# Altium integrated library Transistor.IntLib: 3457 symbols (part 58 of 78)
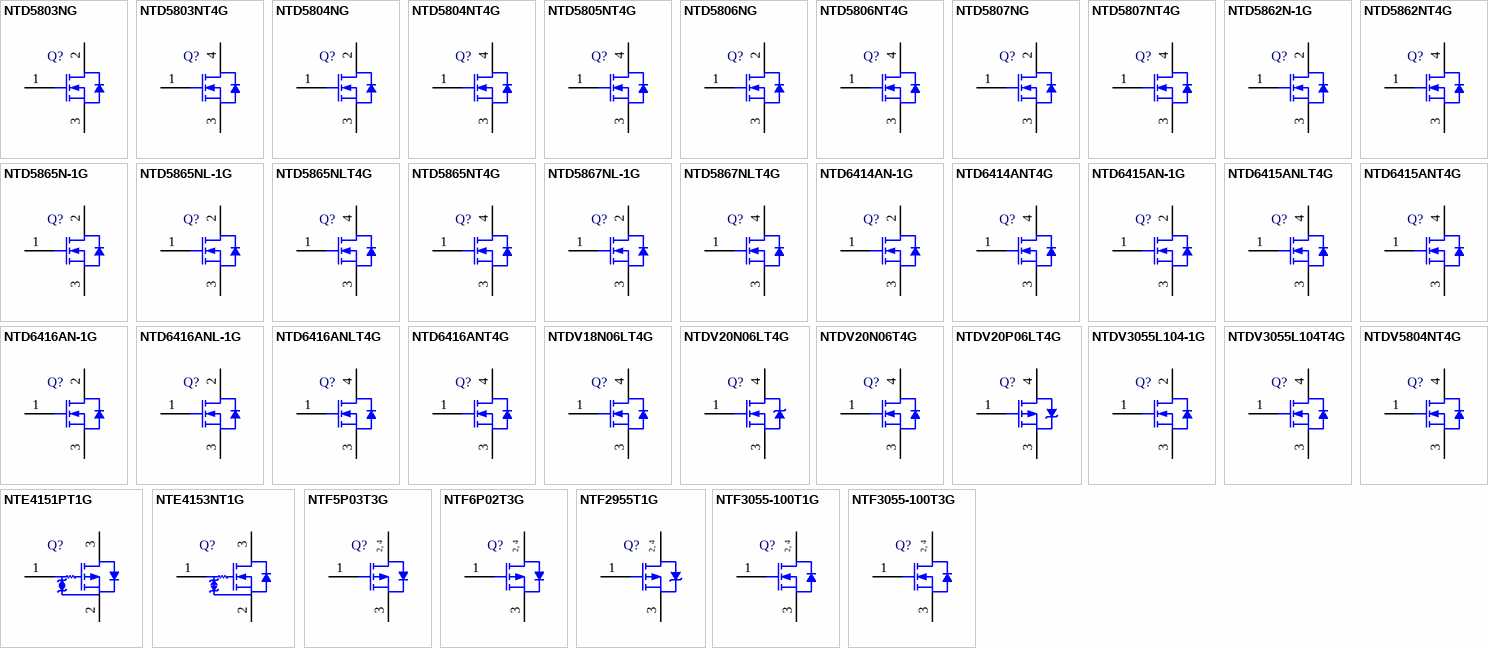
[diagram p151: symbols NTD5803NG to NTF3055-100T3G]

## NTD6416ANL-1G
designator Q?
N-Channel Power MOSFET, 100 V, 19 A, 74 mOhm, 3-Pin IPAK, Pb-Free, Tube; Manufacturer: On Semiconductor; PartNumber: NTD6416ANL-1G; Channel Polarity: N Channel; Ciss Typ (pF): 700; Configuration: Single; Coss Typ (pF): 110; Crss Typ (pF): 50; ID Max (A): 19; PD Max (W): 71; Qrr Typ (nC): 112; V(BR)DSS Min (V): 100; VGS Max (V): 20; VGS(th) Max (V): 2.2; DatasheetVersion: Rev. 4; PackageVersion: Rev. C, 12/2010; PackageReference: IPAK-3-369D-01; PackageDescription: 3-Pin Flange Mount, Vertical Straight Lead, Body 6.54 x 2.285 mm, Pitch 2.29 mm; Package Type: DPAK-3, IPAK-4; Packing: Tube; RoHS: Pb-Free; Mounting Technology: Through Hole; Code_JEDEC: TO-251; ComponentLink1Description: Manufacturer URL; ComponentLink1URL: http://www.onsemi.com/; ComponentLink2Description: Datasheet; ComponentLink2URL: http://www.onsemi.cn/pub_link/Collateral/NTD6416ANL-D.PDF; ComponentLink3Description: Package Specification; ComponentLink3URL: http://www.onsemi.cn/pub_link/Collateral/369D.PDF
footprint ONSC-IPAK-3-369D-01 (FM, 3-Leads, Body 6.75x2.4mm, Pitch 2.29mm)
pins: 1 G, 2 D, 3 S

## NTD6416ANLT4G
designator Q?
N-Channel Power MOSFET, 100 V, 19 A, 74 mOhm, 3-Pin DPAK, Pb-Free, Tape and Reel; Manufacturer: On Semiconductor; PartNumber: NTD6416ANLT4G; Channel Polarity: N Channel; Ciss Typ (pF): 700; Configuration: Single; Coss Typ (pF): 110; Crss Typ (pF): 50; ID Max (A): 19; PD Max (W): 71; Qrr Typ (nC): 112; V(BR)DSS Min (V): 100; VGS Max (V): 20; VGS(th) Max (V): 2.2; DatasheetVersion: Rev. 4; PackageVersion: Rev. B, 06/2010; PackageReference: DPAK-3-369AA-01; PackageDescription: 3-Pin Flange Mount, Body 6.54 x 6.095 mm, Pitch 2.29 mm; Package Type: DPAK-3, IPAK-4; Packing: Tape and Reel; RoHS: Pb-Free; Mounting Technology: Surface Mount; ComponentLink1Description: Manufacturer URL; ComponentLink1URL: http://www.onsemi.com/; ComponentLink2Description: Datasheet; ComponentLink2URL: http://www.onsemi.cn/pub_link/Collateral/NTD6416ANL-D.PDF; ComponentLink3Description: Package Specification; ComponentLink3URL: http://www.onsemi.cn/pub_link/Collateral/369AA.PDF
footprint ONSC-DPAK-3-369AA-01_V (DPAK, 3-Leads, Body 6.54x6.095mm, Pitch 2.29mm)
pins: 1 G, 3 S, 4 D

## NTD6416ANT4G
designator Q?
N-Channel Power MOSFET, 100 V, 17 A, 81 mOhm, 3-Pin DPAK, Pb-Free, Tape and Reel; Manufacturer: On Semiconductor; PartNumber: NTD6416ANT4G; Channel Polarity: N Channel; Ciss Typ (pF): 620; Configuration: Single; Coss Typ (pF): 110; Crss Typ (pF): 50; ID Max (A): 17; PD Max (W): 71; Qrr Typ (nC): 135; V(BR)DSS Min (V): 100; VGS Max (V): 20; VGS(th) Max (V): 4; DatasheetVersion: Rev. 2; PackageVersion: Rev. B, 06/2010; PackageReference: DPAK-3-369AA-01; PackageDescription: 3-Pin Flange Mount, Body 6.54 x 6.095 mm, Pitch 2.29 mm; Package Type: DPAK-3, IPAK-4; Packing: Tape and Reel; RoHS: Pb-Free; Mounting Technology: Surface Mount; ComponentLink1Description: Manufacturer URL; ComponentLink1URL: http://www.onsemi.com/; ComponentLink2Description: Datasheet; ComponentLink2URL: http://www.onsemi.cn/pub_link/Collateral/NTD6416AN-D.PDF; ComponentLink3Description: Package Specification; ComponentLink3URL: http://www.onsemi.cn/pub_link/Collateral/369AA.PDF
footprint ONSC-DPAK-3-369AA-01_V (DPAK, 3-Leads, Body 6.54x6.095mm, Pitch 2.29mm)
pins: 1 G, 3 S, 4 D

## NTDV18N06LT4G
designator Q?
Power MOSFET, 18 A, 60 V, Logic Level, N-Channel, 3-Pin DPAK, Pb-Free, Tape and Reel; Manufacturer: On Semiconductor; PartNumber: NTDV18N06LT4G; Channel Polarity: N Channel; Ciss Typ (pF): 482; Configuration: Single; Coss Typ (pF): 166; Crss Typ (pF): 56; ID Max (A): 18; Qrr Typ (nC): 57; V(BR)DSS Min (V): 60; VGS(th) Max (V): 2; DatasheetVersion: Rev. 6; PackageVersion: Rev. E, 02/2014; PackageReference: DPAK-3-369C-01; PackageDescription: 3-Pin Flange Mount, Body 6.54 x 6.095 mm, Pitch 2.29 mm; Package Type: DPAK-3; Packing: Tape and Reel; RoHS: Pb-Free; Mounting Technology: Surface Mount; ComponentLink1Description: Manufacturer URL; ComponentLink1URL: http://www.onsemi.com/; ComponentLink2Description: Datasheet; ComponentLink2URL: http://www.onsemi.cn/pub_link/Collateral/NTD18N06L-D.PDF; ComponentLink3Description: Package Specification; ComponentLink3URL: http://www.onsemi.cn/pub_link/Collateral/369C.PDF
footprint ONSC-DPAK-3-369C-01_V (DPAK, 3-Leads, Body 6.54x6.095mm, Pitch 2.29mm)
pins: 1 G, 3 S, 4 D

## NTDV20N06LT4G
designator Q?
Power MOSFET, 20 A, 60 V, Logic Level, N-Channel, 3-Pin DPAK, Pb-Free, Tape and Reel; Manufacturer: On Semiconductor; PartNumber: NTDV20N06LT4G; Channel Polarity: N Channel; Ciss Typ (pF): 707; Configuration: Single; Coss Typ (pF): 224; Crss Typ (pF): 72; ID Max (A): 20; Qrr Typ (nC): 66; V(BR)DSS Min (V): 60; VGS(th) Max (V): 2; DatasheetVersion: Rev. 3; PackageVersion: Rev. E, 02/2014; PackageReference: DPAK-3-369C-01; PackageDescription: 3-Pin Flange Mount, Body 6.54 x 6.095 mm, Pitch 2.29 mm; Package Type: DPAK-3; Packing: Tape and Reel; RoHS: Pb-Free; Mounting Technology: Surface Mount; ComponentLink1Description: Manufacturer URL; ComponentLink1URL: http://www.onsemi.com/; ComponentLink2Description: Datasheet; ComponentLink2URL: http://www.onsemi.cn/pub_link/Collateral/NTD20N06L-D.PDF; ComponentLink3Description: Package Specification; ComponentLink3URL: http://www.onsemi.cn/pub_link/Collateral/369C.PDF
footprint ONSC-DPAK-3-369C-01_V (DPAK, 3-Leads, Body 6.54x6.095mm, Pitch 2.29mm)
pins: 1 G, 3 S, 4 D

## NTDV20N06T4G
designator Q?
Power MOSFET, 20 A, 60 V, N-Channel, 3-Pin DPAK, Pb-Free, Tape and Reel; Manufacturer: On Semiconductor; PartNumber: NTDV20N06T4G; Channel Polarity: N Channel; Ciss Typ (pF): 725; Configuration: Single; Coss Typ (pF): 213; Crss Typ (pF): 58; ID Max (A): 20; Qrr Typ (nC): 84; V(BR)DSS Min (V): 60; VGS(th) Max (V): 4; DatasheetVersion: Rev. 8; PackageVersion: Rev. E, 02/2014; PackageReference: DPAK-3-369C-01; PackageDescription: 3-Pin Flange Mount, Body 6.54 x 6.095 mm, Pitch 2.29 mm; Package Type: DPAK-3; Packing: Tape and Reel; RoHS: Pb-Free; Mounting Technology: Surface Mount; ComponentLink1Description: Manufacturer URL; ComponentLink1URL: http://www.onsemi.com/; ComponentLink2Description: Datasheet; ComponentLink2URL: http://www.onsemi.cn/pub_link/Collateral/NTD20N06-D.PDF; ComponentLink3Description: Package Specification; ComponentLink3URL: http://www.onsemi.cn/pub_link/Collateral/369C.PDF
footprint ONSC-DPAK-3-369C-01_V (DPAK, 3-Leads, Body 6.54x6.095mm, Pitch 2.29mm)
pins: 1 G, 3 S, 4 D

## NTDV20P06LT4G
designator Q?
Power MOSFET, -60 V, -15.5 A, Single P-Channel, 3-Pin DPAK, Pb-Free, Tape and Reel; Manufacturer: On Semiconductor; PartNumber: NTDV20P06LT4G; Channel Polarity: P Channel; Ciss Typ (pF): 740; Coss Typ (pF): 207; Crss Typ (pF): 66; ID Max (A): 15.5; PD Max (W): 65; Qrr Typ (nC): 0.13; V(BR)DSS Min (V): 60; VGS Max (V): 20; VGS(th) Max (V): 2; DatasheetVersion: Rev. 6; PackageVersion: Rev. E, 02/2014; PackageReference: DPAK-3-369C-01; PackageDescription: 3-Pin Flange Mount, Body 6.54 x 6.095 mm, Pitch 2.29 mm; Configuration: Single; Package Type: DPAK-3; Packing: Tape and Reel; RoHS: Pb-Free; Mounting Technology: Surface Mount; ComponentLink1Description: Manufacturer URL; ComponentLink1URL: http://www.onsemi.com/; ComponentLink2Description: Datasheet; ComponentLink2URL: http://www.onsemi.cn/pub_link/Collateral/NTD20P06L-D.PDF; ComponentLink3Description: Package Specification; ComponentLink3URL: http://www.onsemi.cn/pub_link/Collateral/369C.PDF
footprint ONSC-DPAK-3-369C-01_V (DPAK, 3-Leads, Body 6.54x6.095mm, Pitch 2.29mm)
pins: 1 G, 3 S, 4 D

## NTDV3055L104-1G
designator Q?
Power MOSFET, 12 A, 60 V, Logic Level, N-Channel, 3-Pin IPAK, Pb-Free, Tube; Manufacturer: On Semiconductor; PartNumber: NTDV3055L104-1G; Channel Polarity: N Channel; Ciss Typ (pF): 316; Configuration: Single; Coss Typ (pF): 105; Crss Typ (pF): 35; ID Max (A): 12; Qrr Typ (nC): 40; V(BR)DSS Min (V): 60; VGS(th) Max (V): 2; DatasheetVersion: Rev. 8; PackageVersion: Rev. C, 12/2010; PackageReference: IPAK-3-369D-01; PackageDescription: 3-Pin Flange Mount, Vertical Straight Lead, Body 6.54 x 2.285 mm, Pitch 2.29 mm; Package Type: DPAK-3, IPAK-4; Packing: Tube; RoHS: Pb-Free; Mounting Technology: Through Hole; Code_JEDEC: TO-251; ComponentLink1Description: Manufacturer URL; ComponentLink1URL: http://www.onsemi.com/; ComponentLink2Description: Datasheet; ComponentLink2URL: http://www.onsemi.cn/pub_link/Collateral/NTD3055L104-D.PDF; ComponentLink3Description: Package Specification; ComponentLink3URL: http://www.onsemi.cn/pub_link/Collateral/369D.PDF
footprint ONSC-IPAK-3-369D-01 (FM, 3-Leads, Body 6.75x2.4mm, Pitch 2.29mm)
pins: 1 G, 2 D, 3 S

## NTDV3055L104T4G
designator Q?
Power MOSFET, 12 A, 60 V, Logic Level, N-Channel, 3-Pin DPAK, Pb-Free, Tape and Reel; Manufacturer: On Semiconductor; PartNumber: NTDV3055L104T4G; Channel Polarity: N Channel; Ciss Typ (pF): 316; Configuration: Single; Coss Typ (pF): 105; Crss Typ (pF): 35; ID Max (A): 12; Qrr Typ (nC): 40; V(BR)DSS Min (V): 60; VGS(th) Max (V): 2; DatasheetVersion: Rev. 8; PackageVersion: Rev. E, 02/2014; PackageReference: DPAK-3-369C-01; PackageDescription: 3-Pin Flange Mount, Body 6.54 x 6.095 mm, Pitch 2.29 mm; Package Type: DPAK-3, IPAK-4; Packing: Tape and Reel; RoHS: Pb-Free; Mounting Technology: Surface Mount; ComponentLink1Description: Manufacturer URL; ComponentLink1URL: http://www.onsemi.com/; ComponentLink2Description: Datasheet; ComponentLink2URL: http://www.onsemi.cn/pub_link/Collateral/NTD3055L104-D.PDF; ComponentLink3Description: Package Specification; ComponentLink3URL: http://www.onsemi.cn/pub_link/Collateral/369C.PDF
footprint ONSC-DPAK-3-369C-01_V (DPAK, 3-Leads, Body 6.54x6.095mm, Pitch 2.29mm)
pins: 1 G, 3 S, 4 D

## NTDV5804NT4G
designator Q?
Power MOSFET, 40 V, 69 A, Single N-Channe, 3-Pin DPAK, Pb-Free, Tape and Reel; Manufacturer: On Semiconductor; PartNumber: NTDV5804NT4G; Channel Polarity: N Channel; Ciss Typ (pF): 2460; Coss Typ (pF): 310; Crss Typ (pF): 215; ID Max (A): 69; PD Max (W): 71; Qrr Typ (nC): 11.8; V(BR)DSS Min (V): 40; VGS(th) Max (V): 3.5; DatasheetVersion: Rev. 7; PackageVersion: Rev. E, 02/2014; PackageReference: DPAK-3-369C-01; PackageDescription: 3-Pin Flange Mount, Body 6.54 x 6.095 mm, Pitch 2.29 mm; Configuration: Single; Package Type: DPAK-3; Packing: Tape and Reel; RoHS: Pb-Free; Mounting Technology: Surface Mount; ComponentLink1Description: Manufacturer URL; ComponentLink1URL: http://www.onsemi.com/; ComponentLink2Description: Datasheet; ComponentLink2URL: http://www.onsemi.cn/pub_link/Collateral/NTD5804N-D.PDF; ComponentLink3Description: Package Specification; ComponentLink3URL: http://www.onsemi.cn/pub_link/Collateral/369C.PDF
footprint ONSC-DPAK-3-369C-01_V (DPAK, 3-Leads, Body 6.54x6.095mm, Pitch 2.29mm)
pins: 1 G, 3 S, 4 D

## NTE4151PT1G
designator Q?
Small Signal MOSFET, -20 V, -760 mA, Single P-Channel, Gate Zener, 3-Pin SC-89, Pb-Free, Tape and Reel; Manufacturer: On Semiconductor; PartNumber: NTE4151PT1G; Channel Polarity: P Channel; Ciss Typ (pF): 156; Coss Typ (pF): 28; Crss Typ (pF): 18; ID Max (A): 0.76; V(BR)DSS Min (V): 20; VGS Max (V): 6; VGS(th) Max (V): 1.2; DatasheetVersion: Rev. 7; PackageVersion: Rev. C, 07/2003; PackageReference: SC-89-3-463C-02; PackageDescription: 3-Pin Small Outline Transistor, Body 1.6 x 0.85 mm, Pitch 0.5 mm; Configuration: Single; Package Type: SC-89-3; Packing: Tape and Reel; RoHS: Pb-Free; Mounting Technology: Surface Mount; ComponentLink1Description: Manufacturer URL; ComponentLink1URL: http://www.onsemi.com/; ComponentLink2Description: Datasheet; ComponentLink2URL: http://www.onsemi.com/pub_link/Collateral/NTA4151P-D.PDF; ComponentLink3Description: Package Specification; ComponentLink3URL: http://www.onsemi.com/pub_link/Collateral/463C-02.PDF
footprint ONSC-SC-89-3-463C-02_V (SOT23, 3-Leads, Body 1.6x0.85mm, Pitch 0.5mm)
pins: 1 G, 2 S, 3 D

## NTE4153NT1G
designator Q?
Small Signal MOSFET, 20 V, 915 mA, Single N-Channel with ESD Protection, 3-Pin SC-89, Pb-Free, Tape and Reel; Manufacturer: On Semiconductor; PartNumber: NTE4153NT1G; Channel Polarity: N Channel; Ciss Typ (pF): 110; Coss Typ (pF): 16; Crss Typ (pF): 12; ID Max (A): 0.915; PD Max (W): 0.3; V(BR)DSS Min (V): 20; VGS Max (V): 6; VGS(th) Max (V): 1.1; DatasheetVersion: Rev. 5; PackageVersion: Rev. C, 07/2003; PackageReference: SC-89-3-463C-02; PackageDescription: 3-Pin Small Outline Transistor, Body 1.6 x 0.85 mm, Pitch 0.5 mm; Configuration: Single; Package Type: SC-89-3; Packing: Tape and Reel; RoHS: Pb-Free; Mounting Technology: Surface Mount; ComponentLink1Description: Manufacturer URL; ComponentLink1URL: http://www.onsemi.com/; ComponentLink2Description: Datasheet; ComponentLink2URL: http://www.onsemi.com/pub_link/Collateral/NTA4153N-D.PDF; ComponentLink3Description: Package Specification; ComponentLink3URL: http://www.onsemi.com/pub_link/Collateral/463C-02.PDF
footprint ONSC-SC-89-3-463C-02_V (SOT23, 3-Leads, Body 1.6x0.85mm, Pitch 0.5mm)
pins: 1 G, 2 S, 3 D

## NTF5P03T3G
designator Q?
Power MOSFET, -5.2 A, -30 V, P-Channel, 4-Pin SOT-223, Pb-Free, Tape and Reel; Manufacturer: On Semiconductor; PartNumber: NTF5P03T3G; Channel Polarity: P Channel; Ciss Typ (pF): 500; Configuration: Single; Coss Typ (pF): 153; Crss Typ (pF): 58; Qrr Typ (nC): 36; V(BR)DSS Min (V): 30; VGS Max (V): 20; VGS(th) Max (V): 3; DatasheetVersion: Rev. 6; PackageVersion: Rev. N, 08/2009; PackageReference: SOT-223-4-318E-04; PackageDescription: 4-Pin Small Outline Transistor, Body 6.5 x 3.5 mm, Pitch 2.3 mm; Package Type: SOT-223-4 / TO-261-4; Packing: Tape and Reel; RoHS: Pb-Free; Mounting Technology: Surface Mount; ComponentLink1Description: Manufacturer URL; ComponentLink1URL: http://www.onsemi.com/; ComponentLink2Description: Datasheet; ComponentLink2URL: http://www.onsemi.com/pub_link/Collateral/NTF5P03T3-D.PDF; ComponentLink3Description: Package Specification; ComponentLink3URL: http://www.onsemi.com/pub_link/Collateral/318E-04.PDF
footprint ONSC-SOT-223-4-318E-04_V (SOT223, 4-Leads, Body 6.5x3.5mm, Pitch 2.3mm)
pins: 1 G, 2 D, 3 S, 4 D
text: 2, 4

## NTF6P02T3G
designator Q?
Power MOSFET, -10 A, -20 V, P-Channel, 4-Pin SOT-223, Pb-Free, Tape and Reel; Manufacturer: On Semiconductor; PartNumber: NTF6P02T3G; Channel Polarity: P Channel; Configuration: Single; PD Max (W): 8.3; Qrr Typ (nC): 36; V(BR)DSS Min (V): 20; VGS Max (V): 8; VGS(th) Max (V): 1; DatasheetVersion: Rev. 6; PackageVersion: Rev. N, 08/2009; PackageReference: SOT-223-4-318E-04; PackageDescription: 4-Pin Small Outline Transistor, Body 6.5 x 3.5 mm, Pitch 2.3 mm; Package Type: SOT-223-4 / TO-261-4; Packing: Tape and Reel; RoHS: Pb-Free; Mounting Technology: Surface Mount; ComponentLink1Description: Manufacturer URL; ComponentLink1URL: http://www.onsemi.com/; ComponentLink2Description: Datasheet; ComponentLink2URL: http://www.onsemi.com/pub_link/Collateral/NTF6P02T3-D.PDF; ComponentLink3Description: Package Specification; ComponentLink3URL: http://www.onsemi.com/pub_link/Collateral/318E-04.PDF
footprint ONSC-SOT-223-4-318E-04_V (SOT223, 4-Leads, Body 6.5x3.5mm, Pitch 2.3mm)
pins: 1 G, 2 D, 3 S, 4 D
text: 2, 4

## NTF2955T1G
designator Q?
Power MOSFET, -60 V, -2.6 A, Single P-Channel, 4-Pin SOT-223, Pb-Free, Tape and Reel; Manufacturer: On Semiconductor; PartNumber: NTF2955T1G; Channel Polarity: P Channel; Ciss Typ (pF): 492; Coss Typ (pF): 165; Crss Typ (pF): 50; ID Max (A): 2.6; Qrr Typ (nC): 0.139; V(BR)DSS Min (V): 60; VGS Max (V): 20; VGS(th) Max (V): 4; DatasheetVersion: Rev. 6; PackageVersion: Rev. N, 08/2009; PackageReference: SOT-223-4-318E-04; PackageDescription: 4-Pin Small Outline Transistor, Body 6.5 x 3.5 mm, Pitch 2.3 mm; Configuration: Single; Package Type: SOT-223-4 / TO-261-4; Packing: Tape and Reel; RoHS: Pb-Free; Mounting Technology: Surface Mount; ComponentLink1Description: Manufacturer URL; ComponentLink1URL: http://www.onsemi.com/; ComponentLink2Description: Datasheet; ComponentLink2URL: http://www.onsemi.com/pub_link/Collateral/NTF2955-D.PDF; ComponentLink3Description: Package Specification; ComponentLink3URL: http://www.onsemi.com/pub_link/Collateral/318E-04.PDF
footprint ONSC-SOT-223-4-318E-04_V (SOT223, 4-Leads, Body 6.5x3.5mm, Pitch 2.3mm)
pins: 1 G, 2 D, 3 S, 4 D
text: 2, 4

## NTF3055-100T1G
designator Q?
Power MOSFET, 3 A, 60 V, N-Channel, 4-Pin SOT-223, Pb-Free, Tape and Reel; Manufacturer: On Semiconductor; PartNumber: NTF3055-100T1G; Channel Polarity: N Channel; Ciss Typ (pF): 324; Configuration: Single; Coss Typ (pF): 35; Crss Typ (pF): 110; ID Max (A): 3; Qrr Typ (nC): 40; V(BR)DSS Min (V): 60; VGS(th) Max (V): 4; DatasheetVersion: Rev. 4; PackageVersion: Rev. N, 08/2009; PackageReference: SOT-223-4-318E-04; PackageDescription: 4-Pin Small Outline Transistor, Body 6.5 x 3.5 mm, Pitch 2.3 mm; Package Type: SOT-223-4 / TO-261-4; Packing: Tape and Reel; RoHS: Pb-Free; Mounting Technology: Surface Mount; ComponentLink1Description: Manufacturer URL; ComponentLink1URL: http://www.onsemi.com/; ComponentLink2Description: Datasheet; ComponentLink2URL: http://www.onsemi.com/pub_link/Collateral/NTF3055-100-D.PDF; ComponentLink3Description: Package Specification; ComponentLink3URL: http://www.onsemi.com/pub_link/Collateral/318E-04.PDF
footprint ONSC-SOT-223-4-318E-04_V (SOT223, 4-Leads, Body 6.5x3.5mm, Pitch 2.3mm)
pins: 1 G, 2 D, 3 S, 4 D
text: 2, 4

## NTF3055-100T3G
designator Q?
Power MOSFET, 3 A, 60 V, N-Channel, 4-Pin SOT-223, Pb-Free, Tape and Reel; Manufacturer: On Semiconductor; PartNumber: NTF3055-100T3G; Channel Polarity: N Channel; Ciss Typ (pF): 324; Configuration: Single; Coss Typ (pF): 35; Crss Typ (pF): 110; ID Max (A): 3; Qrr Typ (nC): 40; V(BR)DSS Min (V): 60; VGS(th) Max (V): 4; DatasheetVersion: Rev. 4; PackageVersion: Rev. N, 08/2009; PackageReference: SOT-223-4-318E-04; PackageDescription: 4-Pin Small Outline Transistor, Body 6.5 x 3.5 mm, Pitch 2.3 mm; Package Type: SOT-223-4 / TO-261-4; Packing: Tape and Reel; RoHS: Pb-Free; Mounting Technology: Surface Mount; ComponentLink1Description: Manufacturer URL; ComponentLink1URL: http://www.onsemi.com/; ComponentLink2Description: Datasheet; ComponentLink2URL: http://www.onsemi.com/pub_link/Collateral/NTF3055-100-D.PDF; ComponentLink3Description: Package Specification; ComponentLink3URL: http://www.onsemi.com/pub_link/Collateral/318E-04.PDF
footprint ONSC-SOT-223-4-318E-04_V (SOT223, 4-Leads, Body 6.5x3.5mm, Pitch 2.3mm)
pins: 1 G, 2 D, 3 S, 4 D
text: 2, 4

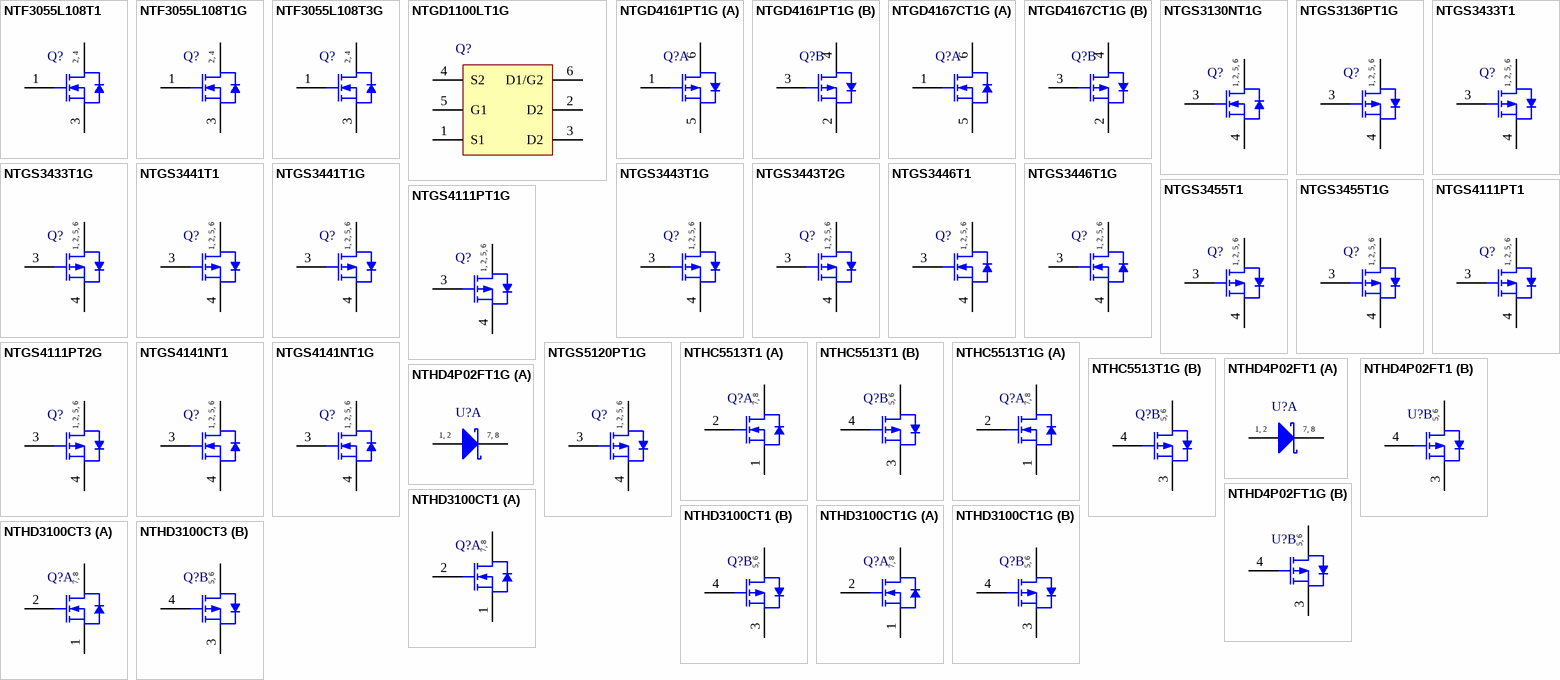
[diagram p69: symbols NTF3055L108T1 to NTHD3100CT3]

## NTF3055L108T1
designator Q?
Power MOSFET, 3 A, 60 V, Logic Level, N-Channel, 4-Pin SOT-223, Tape and Reel; Manufacturer: On Semiconductor; PartNumber: NTF3055L108T1; Channel Polarity: N Channel; Ciss Typ (pF): 313; Configuration: Single; Coss Typ (pF): 112; Crss Typ (pF): 40; Qrr Typ (nC): 44; V(BR)DSS Min (V): 60; VGS(th) Max (V): 2; DatasheetVersion: Rev. 6; PackageVersion: Rev. N, 08/2009; PackageReference: SOT-223-4-318E-04; PackageDescription: 4-Pin Small Outline Transistor, Body 6.5 x 3.5 mm, Pitch 2.3 mm; Package Type: SOT-223-4 / TO-261-4; Packing: Tape and Reel; Mounting Technology: Surface Mount; ComponentLink1Description: Manufacturer URL; ComponentLink1URL: http://www.onsemi.com/; ComponentLink2Description: Datasheet; ComponentLink2URL: http://www.onsemi.com/pub_link/Collateral/NTF3055L108-D.PDF; ComponentLink3Description: Package Specification; ComponentLink3URL: http://www.onsemi.com/pub_link/Collateral/318E-04.PDF
footprint ONSC-SOT-223-4-318E-04_V (SOT223, 4-Leads, Body 6.5x3.5mm, Pitch 2.3mm)
pins: 1 G, 2 D, 3 S, 4 D
text: 2, 4

## NTF3055L108T1G
designator Q?
Power MOSFET, 3 A, 60 V, Logic Level, N-Channel, 4-Pin SOT-223, Pb-Free, Tape and Reel; Manufacturer: On Semiconductor; PartNumber: NTF3055L108T1G; Channel Polarity: N Channel; Ciss Typ (pF): 313; Configuration: Single; Coss Typ (pF): 112; Crss Typ (pF): 40; Qrr Typ (nC): 44; V(BR)DSS Min (V): 60; VGS(th) Max (V): 2; DatasheetVersion: Rev. 6; PackageVersion: Rev. N, 08/2009; PackageReference: SOT-223-4-318E-04; PackageDescription: 4-Pin Small Outline Transistor, Body 6.5 x 3.5 mm, Pitch 2.3 mm; Package Type: SOT-223-4 / TO-261-4; Packing: Tape and Reel; RoHS: Pb-Free; Mounting Technology: Surface Mount; ComponentLink1Description: Manufacturer URL; ComponentLink1URL: http://www.onsemi.com/; ComponentLink2Description: Datasheet; ComponentLink2URL: http://www.onsemi.com/pub_link/Collateral/NTF3055L108-D.PDF; ComponentLink3Description: Package Specification; ComponentLink3URL: http://www.onsemi.com/pub_link/Collateral/318E-04.PDF
footprint ONSC-SOT-223-4-318E-04_V (SOT223, 4-Leads, Body 6.5x3.5mm, Pitch 2.3mm)
pins: 1 G, 2 D, 3 S, 4 D
text: 2, 4

## NTF3055L108T3G
designator Q?
Power MOSFET, 3 A, 60 V, Logic Level, N-Channel, 4-Pin SOT-223, Pb-Free, Tape and Reel; Manufacturer: On Semiconductor; PartNumber: NTF3055L108T3G; Channel Polarity: N Channel; Ciss Typ (pF): 313; Configuration: Single; Coss Typ (pF): 112; Crss Typ (pF): 40; Qrr Typ (nC): 44; V(BR)DSS Min (V): 60; VGS(th) Max (V): 2; DatasheetVersion: Rev. 6; PackageVersion: Rev. N, 08/2009; PackageReference: SOT-223-4-318E-04; PackageDescription: 4-Pin Small Outline Transistor, Body 6.5 x 3.5 mm, Pitch 2.3 mm; Package Type: SOT-223-4 / TO-261-4; Packing: Tape and Reel; RoHS: Pb-Free; Mounting Technology: Surface Mount; ComponentLink1Description: Manufacturer URL; ComponentLink1URL: http://www.onsemi.com/; ComponentLink2Description: Datasheet; ComponentLink2URL: http://www.onsemi.com/pub_link/Collateral/NTF3055L108-D.PDF; ComponentLink3Description: Package Specification; ComponentLink3URL: http://www.onsemi.com/pub_link/Collateral/318E-04.PDF
footprint ONSC-SOT-223-4-318E-04_V (SOT223, 4-Leads, Body 6.5x3.5mm, Pitch 2.3mm)
pins: 1 G, 2 D, 3 S, 4 D
text: 2, 4

## NTGD1100LT1G
designator Q?
Power MOSFET, 8 V, + / - 3.3 A, Load Switch with Level-Shift, P-Channel, 6-Pin TSOP, Pb-Free, Tape and Reel; Manufacturer: On Semiconductor; PartNumber: NTGD1100LT1G; Channel Polarity: P Channel; Configuration: Dual; ID Max (A): 3.3; DatasheetVersion: Rev. 10; PackageVersion: Rev. V, 06/2012; PackageReference: TSOP-6-318G-02; PackageDescription: 6-Pin Small Outline Package, Body 3 x 1.5 mm, Pitch 0.95 mm; Package Type: SC-74; Packing: Tape and Reel; RoHS: Pb-Free; Mounting Technology: Surface Mount; ComponentLink1Description: Manufacturer URL; ComponentLink1URL: http://www.onsemi.com/; ComponentLink2Description: Datasheet; ComponentLink2URL: http://www.onsemi.com/pub_link/Collateral/NTGD1100L-D.PDF; ComponentLink3Description: Package Specification; ComponentLink3URL: http://www.onsemi.com/pub_link/Collateral/318G-02.PDF
footprint ONSC-TSOP-6-318G-02_V (SOP, 6-Leads, Body 3x1.5mm, Pitch 0.95mm)
pins: 1 S1, 2 D2, 3 D2, 4 S2, 5 G1, 6 D1/G2

## NTGD4161PT1G
designator Q?
Power MOSFET, -30 V, -2.3 A, Dual P-Channel, 6-Pin TSOP, Pb-Free, Tape and Reel; Manufacturer: On Semiconductor; PartNumber: NTGD4161PT1G; Channel Polarity: P Channel; Ciss Typ (pF): 281; Coss Typ (pF): 50; Crss Typ (pF): 28; Qrr Typ (nC): 3; V(BR)DSS Min (V): 30; VGS Max (V): 20; DatasheetVersion: Rev. 1; PackageVersion: Rev. V, 06/2012; PackageReference: TSOP-6-318G-02; PackageDescription: 6-Pin Small Outline Package, Body 3 x 1.5 mm, Pitch 0.95 mm; Configuration: Dual; Package Type: TSOP-6; Packing: Tape and Reel; RoHS: Pb-Free; VGS(th) Max (V): 3; Mounting Technology: Surface Mount; ComponentLink1Description: Manufacturer URL; ComponentLink1URL: http://www.onsemi.com/; ComponentLink2Description: Datasheet; ComponentLink2URL: http://www.onsemi.com/pub_link/Collateral/NTGD4161P-D.PDF; ComponentLink3Description: Package Specification; ComponentLink3URL: http://www.onsemi.com/pub_link/Collateral/318G-02.PDF
footprint ONSC-TSOP-6-318G-02_V (SOP, 6-Leads, Body 3x1.5mm, Pitch 0.95mm)
part A pins: 1 G1, 5 S1, 6 D1
part B pins: 2 S2, 3 G2, 4 D2

## NTGD4167CT1G
designator Q?
Power MOSFET, Complementary, 30 V, +2.9 / -2.2 A, 6-Pin TSOP, Pb-Free, Tape and Reel; Manufacturer: On Semiconductor; PartNumber: NTGD4167CT1G; Configuration: Dual; V(BR)DSS Min (V): 30; VGS Max (V): 12; VGS(th) Max (V): 1.5; DatasheetVersion: Rev. 1; PackageVersion: Rev. V, 06/2012; PackageReference: TSOP-6-318G-02; PackageDescription: 6-Pin Small Outline Package, Body 3 x 1.5 mm, Pitch 0.95 mm; Channel Polarity: Complementary; Package Type: TSOP-6; Packing: Tape and Reel; RoHS: Pb-Free; Mounting Technology: Surface Mount; ComponentLink1Description: Manufacturer URL; ComponentLink1URL: http://www.onsemi.com/; ComponentLink2Description: Datasheet; ComponentLink2URL: http://www.onsemi.com/pub_link/Collateral/NTGD4167C-D.PDF; ComponentLink3Description: Package Specification; ComponentLink3URL: http://www.onsemi.com/pub_link/Collateral/318G-02.PDF
footprint ONSC-TSOP-6-318G-02_V (SOP, 6-Leads, Body 3x1.5mm, Pitch 0.95mm)
part A pins: 1 G1, 5 S1, 6 D1
part B pins: 2 S2, 3 G2, 4 D2

## NTGS3130NT1G
designator Q?
Power MOSFET, 20 V, 5.6 A Single, N-Channel, 6-Pin TSOP, Pb-Free, Tape and Reel; Manufacturer: On Semiconductor; PartNumber: NTGS3130NT1G; Channel Polarity: N Channel; Qrr Typ (nC): 8.8; V(BR)DSS Min (V): 20; VGS Max (V): 8; VGS(th) Max (V): 1.4; DatasheetVersion: Rev. 0; PackageVersion: Rev. V, 06/2012; PackageReference: TSOP-6-318G-02; PackageDescription: 6-Pin Small Outline Package, Body 3 x 1.5 mm, Pitch 0.95 mm; Configuration: Single; Package Type: TSOP-6; Packing: Tape and Reel; RoHS: Pb-Free; Mounting Technology: Surface Mount; ComponentLink1Description: Manufacturer URL; ComponentLink1URL: http://www.onsemi.com/; ComponentLink2Description: Datasheet; ComponentLink2URL: http://www.onsemi.com/pub_link/Collateral/NTGS3130N-D.PDF; ComponentLink3Description: Package Specification; ComponentLink3URL: http://www.onsemi.com/pub_link/Collateral/318G-02.PDF
footprint ONSC-TSOP-6-318G-02_V (SOP, 6-Leads, Body 3x1.5mm, Pitch 0.95mm)
pins: 1 D, 2 D, 3 G, 4 S, 5 D, 6 D
text: 1, 2, 5, 6

## NTGS3136PT1G
designator Q?
Power MOSFET, -20 V, -5.8 A, Single P-Channel, 6-Pin TSOP, Pb-Free, Tape and Reel; Manufacturer: On Semiconductor; PartNumber: NTGS3136PT1G; Channel Polarity: P Channel; Ciss Typ (pF): 1901; Coss Typ (pF): 274; Crss Typ (pF): 175; V(BR)DSS Min (V): 20; VGS Max (V): 8; VGS(th) Max (V): 1; DatasheetVersion: Rev. 0; PackageVersion: Rev. V, 06/2012; PackageReference: TSOP-6-318G-02; PackageDescription: 6-Pin Small Outline Package, Body 3 x 1.5 mm, Pitch 0.95 mm; Configuration: Single; Package Type: TSOP-6; Packing: Tape and Reel; RoHS: Pb-Free; Mounting Technology: Surface Mount; ComponentLink1Description: Manufacturer URL; ComponentLink1URL: http://www.onsemi.com/; ComponentLink2Description: Datasheet; ComponentLink2URL: http://www.onsemi.com/pub_link/Collateral/NTGS3136P-D.PDF; ComponentLink3Description: Package Specification; ComponentLink3URL: http://www.onsemi.com/pub_link/Collateral/318G-02.PDF
footprint ONSC-TSOP-6-318G-02_V (SOP, 6-Leads, Body 3x1.5mm, Pitch 0.95mm)
pins: 1 D, 2 D, 3 G, 4 S, 5 D, 6 D
text: 1, 2, 5, 6

## NTGS3433T1
designator Q?
MOSFET, -3.3 A, -12 V, P-Channel, 6-Pin TSOP, Tape and Reel; Manufacturer: On Semiconductor; PartNumber: NTGS3433T1; Channel Polarity: P Channel; Ciss Typ (pF): 550; Configuration: Single; Coss Typ (pF): 450; Crss Typ (pF): 200; ID Max (A): 3.3; V(BR)DSS Min (V): 12; VGS Max (V): 8; VGS(th) Max (V): 1.5; DatasheetVersion: Rev. 2; PackageVersion: Rev. V, 06/2012; PackageReference: TSOP-6-318G-02; PackageDescription: 6-Pin Small Outline Package, Body 3 x 1.5 mm, Pitch 0.95 mm; Package Type: TSOP-6; Packing: Tape and Reel; Mounting Technology: Surface Mount; ComponentLink1Description: Manufacturer URL; ComponentLink1URL: http://www.onsemi.com/; ComponentLink2Description: Datasheet; ComponentLink2URL: http://www.onsemi.com/pub_link/Collateral/NTGS3433T1-D.PDF; ComponentLink3Description: Package Specification; ComponentLink3URL: http://www.onsemi.com/pub_link/Collateral/318G-02.PDF
footprint ONSC-TSOP-6-318G-02_V (SOP, 6-Leads, Body 3x1.5mm, Pitch 0.95mm)
pins: 1 D, 2 D, 3 G, 4 S, 5 D, 6 D
text: 1, 2, 5, 6

## NTGS3433T1G
designator Q?
MOSFET, -3.3 A, -12 V, P-Channel, 6-Pin TSOP, Pb-Free, Tape and Reel; Manufacturer: On Semiconductor; PartNumber: NTGS3433T1G; Channel Polarity: P Channel; Ciss Typ (pF): 550; Configuration: Single; Coss Typ (pF): 450; Crss Typ (pF): 200; ID Max (A): 3.3; V(BR)DSS Min (V): 12; VGS Max (V): 8; VGS(th) Max (V): 1.5; DatasheetVersion: Rev. 2; PackageVersion: Rev. V, 06/2012; PackageReference: TSOP-6-318G-02; PackageDescription: 6-Pin Small Outline Package, Body 3 x 1.5 mm, Pitch 0.95 mm; Package Type: TSOP-6; Packing: Tape and Reel; RoHS: Pb-Free; Mounting Technology: Surface Mount; ComponentLink1Description: Manufacturer URL; ComponentLink1URL: http://www.onsemi.com/; ComponentLink2Description: Datasheet; ComponentLink2URL: http://www.onsemi.com/pub_link/Collateral/NTGS3433T1-D.PDF; ComponentLink3Description: Package Specification; ComponentLink3URL: http://www.onsemi.com/pub_link/Collateral/318G-02.PDF
footprint ONSC-TSOP-6-318G-02_V (SOP, 6-Leads, Body 3x1.5mm, Pitch 0.95mm)
pins: 1 D, 2 D, 3 G, 4 S, 5 D, 6 D
text: 1, 2, 5, 6

## NTGS3441T1
designator Q?
Power MOSFET, 1 A, 20 V, P-Channel, 6-Pin TSOP, Tape and Reel; Manufacturer: On Semiconductor; PartNumber: NTGS3441T1; Channel Polarity: P Channel; Ciss Typ (pF): 480; Configuration: Single; Coss Typ (pF): 265; Crss Typ (pF): 100; V(BR)DSS Min (V): 20; VGS Max (V): 8; VGS(th) Max (V): 1.5; DatasheetVersion: Rev. 6; PackageVersion: Rev. V, 06/2012; PackageReference: TSOP-6-318G-02; PackageDescription: 6-Pin Small Outline Package, Body 3 x 1.5 mm, Pitch 0.95 mm; Package Type: TSOP-6; Packing: Tape and Reel; Mounting Technology: Surface Mount; ComponentLink1Description: Manufacturer URL; ComponentLink1URL: http://www.onsemi.com/; ComponentLink2Description: Datasheet; ComponentLink2URL: http://www.onsemi.com/pub_link/Collateral/NTGS3441T1-D.PDF; ComponentLink3Description: Package Specification; ComponentLink3URL: http://www.onsemi.com/pub_link/Collateral/318G-02.PDF
footprint ONSC-TSOP-6-318G-02_V (SOP, 6-Leads, Body 3x1.5mm, Pitch 0.95mm)
pins: 1 D, 2 D, 3 G, 4 S, 5 D, 6 D
text: 1, 2, 5, 6

## NTGS3441T1G
designator Q?
Power MOSFET, 1 A, 20 V, P-Channel, 6-Pin TSOP, Pb-Free, Tape and Reel; Manufacturer: On Semiconductor; PartNumber: NTGS3441T1G; Channel Polarity: P Channel; Ciss Typ (pF): 480; Configuration: Single; Coss Typ (pF): 265; Crss Typ (pF): 100; V(BR)DSS Min (V): 20; VGS Max (V): 8; VGS(th) Max (V): 1.5; DatasheetVersion: Rev. 6; PackageVersion: Rev. V, 06/2012; PackageReference: TSOP-6-318G-02; PackageDescription: 6-Pin Small Outline Package, Body 3 x 1.5 mm, Pitch 0.95 mm; Package Type: TSOP-6; Packing: Tape and Reel; RoHS: Pb-Free; Mounting Technology: Surface Mount; ComponentLink1Description: Manufacturer URL; ComponentLink1URL: http://www.onsemi.com/; ComponentLink2Description: Datasheet; ComponentLink2URL: http://www.onsemi.com/pub_link/Collateral/NTGS3441T1-D.PDF; ComponentLink3Description: Package Specification; ComponentLink3URL: http://www.onsemi.com/pub_link/Collateral/318G-02.PDF
footprint ONSC-TSOP-6-318G-02_V (SOP, 6-Leads, Body 3x1.5mm, Pitch 0.95mm)
pins: 1 D, 2 D, 3 G, 4 S, 5 D, 6 D
text: 1, 2, 5, 6

## NTGS3443T1G
designator Q?
Power MOSFET, 4.4 A, 20 V, P-Channel, 6-Pin TSOP, Pb-Free, Tape and Reel; Manufacturer: On Semiconductor; PartNumber: NTGS3443T1G; Channel Polarity: P Channel; Ciss Typ (pF): 565; Configuration: Single; Coss Typ (pF): 320; Crss Typ (pF): 120; V(BR)DSS Min (V): 20; VGS Max (V): 12; VGS(th) Max (V): 1.5; DatasheetVersion: Rev. 5; PackageVersion: Rev. V, 06/2012; PackageReference: TSOP-6-318G-02; PackageDescription: 6-Pin Small Outline Package, Body 3 x 1.5 mm, Pitch 0.95 mm; Package Type: TSOP-6; Packing: Tape and Reel; RoHS: Pb-Free; Mounting Technology: Surface Mount; ComponentLink1Description: Manufacturer URL; ComponentLink1URL: http://www.onsemi.com/; ComponentLink2Description: Datasheet; ComponentLink2URL: http://www.onsemi.com/pub_link/Collateral/NTGS3443T1-D.PDF; ComponentLink3Description: Package Specification; ComponentLink3URL: http://www.onsemi.com/pub_link/Collateral/318G-02.PDF
footprint ONSC-TSOP-6-318G-02_V (SOP, 6-Leads, Body 3x1.5mm, Pitch 0.95mm)
pins: 1 D, 2 D, 3 G, 4 S, 5 D, 6 D
text: 1, 2, 5, 6

## NTGS3443T2G
designator Q?
Power MOSFET, 4.4 A, 20 V, P-Channel, 6-Pin TSOP, Pb-Free, Tape and Reel; Manufacturer: On Semiconductor; PartNumber: NTGS3443T2G; Channel Polarity: P Channel; Ciss Typ (pF): 565; Configuration: Single; Coss Typ (pF): 320; Crss Typ (pF): 120; V(BR)DSS Min (V): 20; VGS Max (V): 12; VGS(th) Max (V): 1.5; DatasheetVersion: Rev. 5; PackageVersion: Rev. V, 06/2012; PackageReference: TSOP-6-318G-02; PackageDescription: 6-Pin Small Outline Package, Body 3 x 1.5 mm, Pitch 0.95 mm; Package Type: TSOP-6; Packing: Tape and Reel; RoHS: Pb-Free; Mounting Technology: Surface Mount; ComponentLink1Description: Manufacturer URL; ComponentLink1URL: http://www.onsemi.com/; ComponentLink2Description: Datasheet; ComponentLink2URL: http://www.onsemi.com/pub_link/Collateral/NTGS3443T1-D.PDF; ComponentLink3Description: Package Specification; ComponentLink3URL: http://www.onsemi.com/pub_link/Collateral/318G-02.PDF
footprint ONSC-TSOP-6-318G-02_V (SOP, 6-Leads, Body 3x1.5mm, Pitch 0.95mm)
pins: 1 D, 2 D, 3 G, 4 S, 5 D, 6 D
text: 1, 2, 5, 6

## NTGS3446T1
designator Q?
Power MOSFET, 20 V, 5.1 A, Single N-Channel, 6-Pin TSOP, Tape and Reel; Manufacturer: On Semiconductor; PartNumber: NTGS3446T1; Channel Polarity: N Channel; Ciss Typ (pF): 510; Coss Typ (pF): 200; Crss Typ (pF): 60; ID Max (A): 5.1; Qrr Typ (nC): 10; V(BR)DSS Min (V): 20; VGS Max (V): 12; VGS(th) Max (V): 1.2; DatasheetVersion: Rev. 5; PackageVersion: Rev. V, 06/2012; PackageReference: TSOP-6-318G-02; PackageDescription: 6-Pin Small Outline Package, Body 3 x 1.5 mm, Pitch 0.95 mm; Configuration: Single; Package Type: TSOP-6; Packing: Tape and Reel; Mounting Technology: Surface Mount; ComponentLink1Description: Manufacturer URL; ComponentLink1URL: http://www.onsemi.com/; ComponentLink2Description: Datasheet; ComponentLink2URL: http://www.onsemi.com/pub_link/Collateral/NTGS3446-D.PDF; ComponentLink3Description: Package Specification; ComponentLink3URL: http://www.onsemi.com/pub_link/Collateral/318G-02.PDF
footprint ONSC-TSOP-6-318G-02_V (SOP, 6-Leads, Body 3x1.5mm, Pitch 0.95mm)
pins: 1 D, 2 D, 3 G, 4 S, 5 D, 6 D
text: 1, 2, 5, 6

## NTGS3446T1G
designator Q?
Power MOSFET, 20 V, 5.1 A, Single N-Channel, 6-Pin TSOP, Pb-Free, Tape and Reel; Manufacturer: On Semiconductor; PartNumber: NTGS3446T1G; Channel Polarity: N Channel; Ciss Typ (pF): 510; Coss Typ (pF): 200; Crss Typ (pF): 60; ID Max (A): 5.1; Qrr Typ (nC): 10; V(BR)DSS Min (V): 20; VGS Max (V): 12; VGS(th) Max (V): 1.2; DatasheetVersion: Rev. 5; PackageVersion: Rev. V, 06/2012; PackageReference: TSOP-6-318G-02; PackageDescription: 6-Pin Small Outline Package, Body 3 x 1.5 mm, Pitch 0.95 mm; Configuration: Single; Package Type: TSOP-6; Packing: Tape and Reel; RoHS: Pb-Free; Mounting Technology: Surface Mount; ComponentLink1Description: Manufacturer URL; ComponentLink1URL: http://www.onsemi.com/; ComponentLink2Description: Datasheet; ComponentLink2URL: http://www.onsemi.com/pub_link/Collateral/NTGS3446-D.PDF; ComponentLink3Description: Package Specification; ComponentLink3URL: http://www.onsemi.com/pub_link/Collateral/318G-02.PDF
footprint ONSC-TSOP-6-318G-02_V (SOP, 6-Leads, Body 3x1.5mm, Pitch 0.95mm)
pins: 1 D, 2 D, 3 G, 4 S, 5 D, 6 D
text: 1, 2, 5, 6

## NTGS3455T1
designator Q?
MOSFET, -3.5 A, -30 V, P-Channel, 6-Pin TSOP, Tape and Reel; Manufacturer: On Semiconductor; PartNumber: NTGS3455T1; Channel Polarity: P Channel; Ciss Typ (pF): 480; Configuration: Single; Coss Typ (pF): 220; Crss Typ (pF): 60; ID Max (A): 3.5; V(BR)DSS Min (V): 30; VGS Max (V): 20; VGS(th) Max (V): 3; DatasheetVersion: Rev. 3; PackageVersion: Rev. V, 06/2012; PackageReference: TSOP-6-318G-02; PackageDescription: 6-Pin Small Outline Package, Body 3 x 1.5 mm, Pitch 0.95 mm; Package Type: TSOP-6; Packing: Tape and Reel; Mounting Technology: Surface Mount; ComponentLink1Description: Manufacturer URL; ComponentLink1URL: http://www.onsemi.com/; ComponentLink2Description: Datasheet; ComponentLink2URL: http://www.onsemi.com/pub_link/Collateral/NTGS3455T1-D.PDF; ComponentLink3Description: Package Specification; ComponentLink3URL: http://www.onsemi.com/pub_link/Collateral/318G-02.PDF
footprint ONSC-TSOP-6-318G-02_V (SOP, 6-Leads, Body 3x1.5mm, Pitch 0.95mm)
pins: 1 D, 2 D, 3 G, 4 S, 5 D, 6 D
text: 1, 2, 5, 6

## NTGS3455T1G
designator Q?
MOSFET, -3.5 A, -30 V, P-Channel, 6-Pin TSOP, Pb-Free, Tape and Reel; Manufacturer: On Semiconductor; PartNumber: NTGS3455T1G; Channel Polarity: P Channel; Ciss Typ (pF): 480; Configuration: Single; Coss Typ (pF): 220; Crss Typ (pF): 60; ID Max (A): 3.5; V(BR)DSS Min (V): 30; VGS Max (V): 20; VGS(th) Max (V): 3; DatasheetVersion: Rev. 3; PackageVersion: Rev. V, 06/2012; PackageReference: TSOP-6-318G-02; PackageDescription: 6-Pin Small Outline Package, Body 3 x 1.5 mm, Pitch 0.95 mm; Package Type: TSOP-6; Packing: Tape and Reel; RoHS: Pb-Free; Mounting Technology: Surface Mount; ComponentLink1Description: Manufacturer URL; ComponentLink1URL: http://www.onsemi.com/; ComponentLink2Description: Datasheet; ComponentLink2URL: http://www.onsemi.com/pub_link/Collateral/NTGS3455T1-D.PDF; ComponentLink3Description: Package Specification; ComponentLink3URL: http://www.onsemi.com/pub_link/Collateral/318G-02.PDF
footprint ONSC-TSOP-6-318G-02_V (SOP, 6-Leads, Body 3x1.5mm, Pitch 0.95mm)
pins: 1 D, 2 D, 3 G, 4 S, 5 D, 6 D
text: 1, 2, 5, 6

## NTGS4111PT1
designator Q?
Power MOSFET, -30 V, -4.7 A, Single P-Channel, 6-Pin TSOP, Tape and Reel; Manufacturer: On Semiconductor; PartNumber: NTGS4111PT1; Channel Polarity: P Channel; Ciss Typ (pF): 750; Coss Typ (pF): 140; Crss Typ (pF): 105; ID Max (A): 4.7; Qrr Typ (nC): 8; V(BR)DSS Min (V): 30; VGS Max (V): 20; VGS(th) Max (V): 3; DatasheetVersion: Rev. 3; PackageVersion: Rev. V, 06/2012; PackageReference: TSOP-6-318G-02; PackageDescription: 6-Pin Small Outline Package, Body 3 x 1.5 mm, Pitch 0.95 mm; Configuration: Single; Package Type: TSOP-6; Packing: Tape and Reel; Mounting Technology: Surface Mount; ComponentLink1Description: Manufacturer URL; ComponentLink1URL: http://www.onsemi.com/; ComponentLink2Description: Datasheet; ComponentLink2URL: http://www.onsemi.com/pub_link/Collateral/NTGS4111P-D.PDF; ComponentLink3Description: Package Specification; ComponentLink3URL: http://www.onsemi.com/pub_link/Collateral/318G-02.PDF
footprint ONSC-TSOP-6-318G-02_V (SOP, 6-Leads, Body 3x1.5mm, Pitch 0.95mm)
pins: 1 D, 2 D, 3 G, 4 S, 5 D, 6 D
text: 1, 2, 5, 6

## NTGS4111PT1G
designator Q?
Power MOSFET, -30 V, -4.7 A, Single P-Channel, 6-Pin TSOP, Pb-Free, Tape and Reel; Manufacturer: On Semiconductor; PartNumber: NTGS4111PT1G; Channel Polarity: P Channel; Ciss Typ (pF): 750; Coss Typ (pF): 140; Crss Typ (pF): 105; ID Max (A): 4.7; Qrr Typ (nC): 8; V(BR)DSS Min (V): 30; VGS Max (V): 20; VGS(th) Max (V): 3; DatasheetVersion: Rev. 3; PackageVersion: Rev. V, 06/2012; PackageReference: TSOP-6-318G-02; PackageDescription: 6-Pin Small Outline Package, Body 3 x 1.5 mm, Pitch 0.95 mm; Configuration: Single; Package Type: TSOP-6; Packing: Tape and Reel; RoHS: Pb-Free; Mounting Technology: Surface Mount; ComponentLink1Description: Manufacturer URL; ComponentLink1URL: http://www.onsemi.com/; ComponentLink2Description: Datasheet; ComponentLink2URL: http://www.onsemi.com/pub_link/Collateral/NTGS4111P-D.PDF; ComponentLink3Description: Package Specification; ComponentLink3URL: http://www.onsemi.com/pub_link/Collateral/318G-02.PDF
footprint ONSC-TSOP-6-318G-02_V (SOP, 6-Leads, Body 3x1.5mm, Pitch 0.95mm)
pins: 1 D, 2 D, 3 G, 4 S, 5 D, 6 D
text: 1, 2, 5, 6

## NTGS4111PT2G
designator Q?
Power MOSFET, -30 V, -4.7 A, Single P-Channel, 6-Pin TSOP, Pb-Free, Tape and Reel; Manufacturer: On Semiconductor; PartNumber: NTGS4111PT2G; Channel Polarity: P Channel; Ciss Typ (pF): 750; Coss Typ (pF): 140; Crss Typ (pF): 105; ID Max (A): 4.7; Qrr Typ (nC): 8; V(BR)DSS Min (V): 30; VGS Max (V): 20; VGS(th) Max (V): 3; DatasheetVersion: Rev. 3; PackageVersion: Rev. V, 06/2012; PackageReference: TSOP-6-318G-02; PackageDescription: 6-Pin Small Outline Package, Body 3 x 1.5 mm, Pitch 0.95 mm; Configuration: Single; Package Type: TSOP-6; Packing: Tape and Reel; RoHS: Pb-Free; Mounting Technology: Surface Mount; ComponentLink1Description: Manufacturer URL; ComponentLink1URL: http://www.onsemi.com/; ComponentLink2Description: Datasheet; ComponentLink2URL: http://www.onsemi.com/pub_link/Collateral/NTGS4111P-D.PDF; ComponentLink3Description: Package Specification; ComponentLink3URL: http://www.onsemi.com/pub_link/Collateral/318G-02.PDF
footprint ONSC-TSOP-6-318G-02_V (SOP, 6-Leads, Body 3x1.5mm, Pitch 0.95mm)
pins: 1 D, 2 D, 3 G, 4 S, 5 D, 6 D
text: 1, 2, 5, 6

## NTGS4141NT1
designator Q?
Power MOSFET, 30 V, 7 A, Single N-Channel, 6-Pin TSOP, Tape and Reel; Manufacturer: On Semiconductor; PartNumber: NTGS4141NT1; Channel Polarity: N Channel; Ciss Typ (pF): 560; Coss Typ (pF): 115; Crss Typ (pF): 75; ID Max (A): 7; Qrr Typ (nC): 8; V(BR)DSS Min (V): 30; VGS Max (V): 20; VGS(th) Max (V): 3; DatasheetVersion: Rev. 5; PackageVersion: Rev. V, 06/2012; PackageReference: TSOP-6-318G-02; PackageDescription: 6-Pin Small Outline Package, Body 3 x 1.5 mm, Pitch 0.95 mm; Configuration: Single; Package Type: TSOP-6; Packing: Tape and Reel; Mounting Technology: Surface Mount; ComponentLink1Description: Manufacturer URL; ComponentLink1URL: http://www.onsemi.com/; ComponentLink2Description: Datasheet; ComponentLink2URL: http://www.onsemi.com/pub_link/Collateral/NTGS4141N-D.PDF; ComponentLink3Description: Package Specification; ComponentLink3URL: http://www.onsemi.com/pub_link/Collateral/318G-02.PDF
footprint ONSC-TSOP-6-318G-02_V (SOP, 6-Leads, Body 3x1.5mm, Pitch 0.95mm)
pins: 1 D, 2 D, 3 G, 4 S, 5 D, 6 D
text: 1, 2, 5, 6

## NTGS4141NT1G
designator Q?
Power MOSFET, 30 V, 7 A, Single N-Channel, 6-Pin TSOP, Pb-Free, Tape and Reel; Manufacturer: On Semiconductor; PartNumber: NTGS4141NT1G; Channel Polarity: N Channel; Ciss Typ (pF): 560; Coss Typ (pF): 115; Crss Typ (pF): 75; ID Max (A): 7; Qrr Typ (nC): 8; V(BR)DSS Min (V): 30; VGS Max (V): 20; VGS(th) Max (V): 3; DatasheetVersion: Rev. 5; PackageVersion: Rev. V, 06/2012; PackageReference: TSOP-6-318G-02; PackageDescription: 6-Pin Small Outline Package, Body 3 x 1.5 mm, Pitch 0.95 mm; Configuration: Single; Package Type: TSOP-6; Packing: Tape and Reel; RoHS: Pb-Free; Mounting Technology: Surface Mount; ComponentLink1Description: Manufacturer URL; ComponentLink1URL: http://www.onsemi.com/; ComponentLink2Description: Datasheet; ComponentLink2URL: http://www.onsemi.com/pub_link/Collateral/NTGS4141N-D.PDF; ComponentLink3Description: Package Specification; ComponentLink3URL: http://www.onsemi.com/pub_link/Collateral/318G-02.PDF
footprint ONSC-TSOP-6-318G-02_V (SOP, 6-Leads, Body 3x1.5mm, Pitch 0.95mm)
pins: 1 D, 2 D, 3 G, 4 S, 5 D, 6 D
text: 1, 2, 5, 6

## NTGS5120PT1G
designator Q?
Power MOSFET, -60 V, -2.9 A, Single P-Channel, 6-Pin TSOP, Pb-Free, Tape and Reel; Manufacturer: On Semiconductor; PartNumber: NTGS5120PT1G; Channel Polarity: P Channel; Ciss Typ (pF): 942; Coss Typ (pF): 72; Crss Typ (pF): 48; ID Max (A): 2.9; Qrr Typ (nC): 15.1; V(BR)DSS Min (V): 60; VGS Max (V): 20; VGS(th) Max (V): 3; DatasheetVersion: Rev. P0; PackageVersion: Rev. V, 06/2012; PackageReference: TSOP-6-318G-02; PackageDescription: 6-Pin Small Outline Package, Body 3 x 1.5 mm, Pitch 0.95 mm; Configuration: Single; Package Type: TSOP-6; Packing: Tape and Reel; RoHS: Pb-Free; Mounting Technology: Surface Mount; ComponentLink1Description: Manufacturer URL; ComponentLink1URL: http://www.onsemi.com/; ComponentLink2Description: Datasheet; ComponentLink2URL: http://www.onsemi.com/pub_link/Collateral/NTGS5120P-D.PDF; ComponentLink3Description: Package Specification; ComponentLink3URL: http://www.onsemi.com/pub_link/Collateral/318G-02.PDF
footprint ONSC-TSOP-6-318G-02_V (SOP, 6-Leads, Body 3x1.5mm, Pitch 0.95mm)
pins: 1 D, 2 D, 3 G, 4 S, 5 D, 6 D
text: 1, 2, 5, 6

## NTHC5513T1
designator Q?
Power MOSFET, 20 V, +3.9 A / -3 A, Comlementary, 8-Pin CHIPFET, Tape and Reel; Manufacturer: On Semiconductor; PartNumber: NTHC5513T1; Channel Polarity: Complementary; Configuration: Dual; V(BR)DSS Min (V): 20; VGS Max (V): 12; VGS(th) Max (V): 1.2; DatasheetVersion: Rev. 4; PackageVersion: Rev. E, 10/2004; PackageReference: CHIPFET-8-1206A-03_S2; PackageDescription: 8-Pin ChipFET, Body 3.025 x 1.625 mm, Pitch 0.635 mm; Package Type: ChipFET-8; Packing: Tape and Reel; Mounting Technology: Surface Mount; ComponentLink1Description: Manufacturer URL; ComponentLink1URL: http://www.onsemi.com/; ComponentLink2Description: Datasheet; ComponentLink2URL: http://www.onsemi.com/pub_link/Collateral/NTHC5513-D.PDF; ComponentLink3Description: Package Specification; ComponentLink3URL: http://www.onsemi.com/pub_link/Collateral/NTHC5513-D.PDF
footprint ONSC-CHIPFET-8-1206A-03_S2_V (SON, 8-Leads, Body 3.025x1.625mm, Pitch 0.635mm)
part A pins: 1 S1, 2 G1, 7 D1, 8 D1
part B pins: 3 S2, 4 G2, 5 D2, 6 D2
part A text: 7, 8
part B text: 5, 6

## NTHC5513T1G
designator Q?
Power MOSFET, 20 V, +3.9 A / -3 A, Comlementary, 8-Pin CHIPFET, Pb-Free, Tape and Reel; Manufacturer: On Semiconductor; PartNumber: NTHC5513T1G; Channel Polarity: Complementary; Configuration: Dual; V(BR)DSS Min (V): 20; VGS Max (V): 12; VGS(th) Max (V): 1.2; DatasheetVersion: Rev. 4; PackageVersion: Rev. E, 10/2004; PackageReference: CHIPFET-8-1206A-03_S2; PackageDescription: 8-Pin ChipFET, Body 3.025 x 1.625 mm, Pitch 0.635 mm; Package Type: ChipFET-8; Packing: Tape and Reel; RoHS: Pb-Free; Mounting Technology: Surface Mount; ComponentLink1Description: Manufacturer URL; ComponentLink1URL: http://www.onsemi.com/; ComponentLink2Description: Datasheet; ComponentLink2URL: http://www.onsemi.com/pub_link/Collateral/NTHC5513-D.PDF; ComponentLink3Description: Package Specification; ComponentLink3URL: http://www.onsemi.com/pub_link/Collateral/NTHC5513-D.PDF
footprint ONSC-CHIPFET-8-1206A-03_S2_V (SON, 8-Leads, Body 3.025x1.625mm, Pitch 0.635mm)
part A pins: 1 S1, 2 G1, 7 D1, 8 D1
part B pins: 3 S2, 4 G2, 5 D2, 6 D2
part A text: 7, 8
part B text: 5, 6

## NTHD4P02FT1
designator U?
Power MOSFET and Schottky Diode, -20 V, -3 A, Single P-Channel with 3 A, 8-Pin CHIPFET, Tape and Reel; Manufacturer: On Semiconductor; PartNumber: NTHD4P02FT1; Channel Polarity: P Channel; Ciss Typ (pF): 185; Configuration: with Schottky Diode; Coss Typ (pF): 95; Crss Typ (pF): 30; ID Max (A): 3; Qrr Typ (nC): 15; V(BR)DSS Min (V): 20; VGS Max (V): 12; VGS(th) Max (V): 1.2; DatasheetVersion: Rev. 7; PackageVersion: Rev. J, 11/2008; PackageReference: CHIPFET-8-1206A-03_S3; PackageDescription: 8-Pin ChipFET, Body 3.025 x 1.625 mm, Pitch 0.635 mm; Package Type: ChipFET-8; Packing: Tape and Reel; Mounting Technology: Surface Mount; ComponentLink1Description: Manufacturer URL; ComponentLink1URL: http://www.onsemi.com/; ComponentLink2Description: Datasheet; ComponentLink2URL: http://www.onsemi.com/pub_link/Collateral/NTHD4P02F.PDF; ComponentLink3Description: Package Specification; ComponentLink3URL: http://www.onsemi.com/pub_link/Collateral/NTHD3101F-D.PDF
footprint ONSC-CHIPFET-8-1206A-03_S3_V (SON, 8-Leads, Body 3.025x1.625mm, Pitch 0.65mm)
part A pins: 1 A, 2 A, 7 K, 8 K
part B pins: 3 S, 4 G, 5 D, 6 D
part A text: 1, 2; 7, 8
part B text: 5, 6

## NTHD4P02FT1G
designator U?
Power MOSFET and Schottky Diode, -20 V, -3 A, Single P-Channel with 3 A, 8-Pin CHIPFET, Pb-Free, Tape and Reel; Manufacturer: On Semiconductor; PartNumber: NTHD4P02FT1G; Channel Polarity: P Channel; Ciss Typ (pF): 185; Configuration: with Schottky Diode; Coss Typ (pF): 95; Crss Typ (pF): 30; ID Max (A): 3; Qrr Typ (nC): 15; V(BR)DSS Min (V): 20; VGS Max (V): 12; VGS(th) Max (V): 1.2; DatasheetVersion: Rev. 7; PackageVersion: Rev. J, 11/2008; PackageReference: CHIPFET-8-1206A-03_S3; PackageDescription: 8-Pin ChipFET, Body 3.025 x 1.625 mm, Pitch 0.635 mm; Package Type: ChipFET-8; Packing: Tape and Reel; RoHS: Pb-Free; Mounting Technology: Surface Mount; ComponentLink1Description: Manufacturer URL; ComponentLink1URL: http://www.onsemi.com/; ComponentLink2Description: Datasheet; ComponentLink2URL: http://www.onsemi.com/pub_link/Collateral/NTHD4P02F.PDF; ComponentLink3Description: Package Specification; ComponentLink3URL: http://www.onsemi.com/pub_link/Collateral/NTHD3101F-D.PDF
footprint ONSC-CHIPFET-8-1206A-03_S3_V (SON, 8-Leads, Body 3.025x1.625mm, Pitch 0.65mm)
part A pins: 1 A, 2 A, 7 K, 8 K
part B pins: 3 S, 4 G, 5 D, 6 D
part A text: 1, 2; 7, 8
part B text: 5, 6

## NTHD3100CT1
designator Q?
Power MOSFET, 20 V, +3.9 A / -4.4 A, Complementary, 8-Pin CHIPFET, Tape and Reel; Manufacturer: On Semiconductor; PartNumber: NTHD3100CT1; Configuration: Dual; V(BR)DSS Min (V): 20; DatasheetVersion: Rev. 3; PackageVersion: Rev. E, 10/2004; PackageReference: CHIPFET-8-1206A-03_S2; PackageDescription: 8-Pin ChipFET, Body 3.025 x 1.625 mm, Pitch 0.635 mm; Channel Polarity: Complementary; Package Type: ChipFET-8; Packing: Tape and Reel; Mounting Technology: Surface Mount; ComponentLink1Description: Manufacturer URL; ComponentLink1URL: http://www.onsemi.com/; ComponentLink2Description: Datasheet; ComponentLink2URL: http://www.onsemi.com/pub_link/Collateral/NTHD3100C-D.PDF; ComponentLink3Description: Package Specification; ComponentLink3URL: http://www.onsemi.com/pub_link/Collateral/NTHC5513-D.PDF
footprint ONSC-CHIPFET-8-1206A-03_S2_V (SON, 8-Leads, Body 3.025x1.625mm, Pitch 0.635mm)
part A pins: 1 S1, 2 G1, 7 D1, 8 D1
part B pins: 3 S2, 4 G2, 5 D2, 6 D2
part A text: 7, 8
part B text: 5, 6